# Altium schematic symbol library BUS Buffer.SchLib: 9 symbols
Pins are listed as number, name and electrical type; pins without a type are passive.

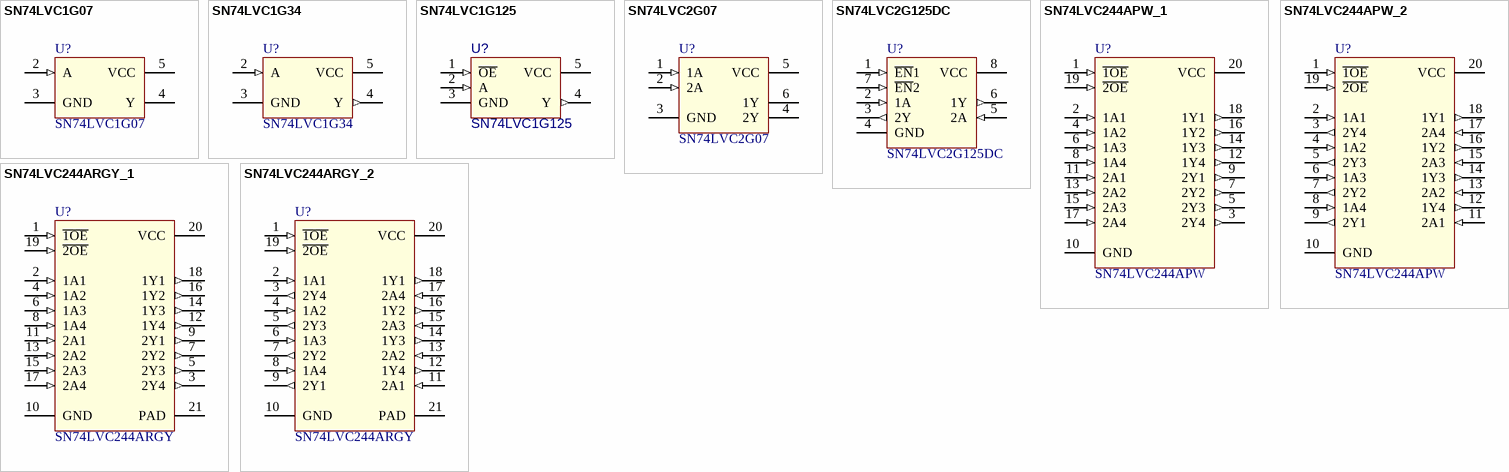
[diagram p0: symbols SN74LVC1G07 to SN74LVC244ARGY_2]

## SN74LVC1G07
designator U?
SN74LVC1G07 Single Buffer/Driver With Open-Drain Output; Value: SN74LVC1G07DBVR
footprint SOT-23-5 (SOT23, 5-Leads, Body 2.9x1.6mm, Pitch 0.95mm, Lead Span 2.8mm, IPC Medium Density)
pins: 2 A (in), 3 GND (power), 4 Y (oc), 5 VCC (power)

## SN74LVC1G34
designator U?
Single Buffer Gate; Value: SN74LVC1G34
footprint SOT-23-5 (SOT23, 5-Leads, Body 2.9x1.6mm, Pitch 0.95mm, Lead Span 2.8mm, IPC Medium Density)
pins: 2 A (in), 3 GND (power), 4 Y (out), 5 VCC (power)

## SN74LVC1G125
designator U?
Single Bus Buffer Gate With 3-State Output; Value: SN74LVC1G125
footprint SOT-23-5 (SOT23, 5-Leads, Body 2.9x1.6mm, Pitch 0.95mm, Lead Span 2.8mm, IPC Medium Density)
pins: 1 ~{OE} (in), 2 A (in), 3 GND (power), 4 Y (out), 5 VCC (power)

## SN74LVC2G07
designator U?
Dual Buffer and Driver With Open-Drain Outputs; Value: SN74LVC2G07
footprint SOT-23-6 (SOT23, 6-Leads, Body 2.9x1.6mm, Pitch 0.95mm, Lead Span 2.8mm, IPC Medium Density)
pins: 1 1A (in), 2 2A (in), 3 GND (power), 4 2Y (oc), 5 VCC (power), 6 1Y (oc)

## SN74LVC2G125DC
designator U?
Dual Bus Buffer Gate With 3-State Outputs; Value: SN74LVC2G125DC
footprint VSSOP-8 (VSSOP, 8-Leads, Body 2,00x2,30mm, Pitch 0,50mm, IPC Medium Density)
footprint SSOP-8 (Footprint not found)
pins: 1 ~{EN}1 (in), 2 1A (in), 3 2Y (out), 4 GND (power), 5 2A (in), 6 1Y (out), 7 ~{EN}2 (in), 8 VCC (power)

## SN74LVC244APW_1
designator U?, comment SN74LVC244APW
Octal Buffer or Driver With 3-State Outputs; Value: SN74LVC244APW
footprint TSSOP-20 (Shrink Small Outline; 20 Leads; Body Width 4.4 mm; Pitch 0.65 mm)
pins: 1 ~{1OE} (in), 2 1A1 (in), 3 2Y4 (out), 4 1A2 (in), 5 2Y3 (out), 6 1A3 (in), 7 2Y2 (out), 8 1A4 (in), 9 2Y1 (out), 10 GND (power), 11 2A1 (in), 12 1Y4 (out), 13 2A2 (in), 14 1Y3 (out), 15 2A3 (in), 16 1Y2 (out), 17 2A4 (in), 18 1Y1 (out), 19 ~{2OE} (in), 20 VCC (power)

## SN74LVC244APW_2
designator U?, comment SN74LVC244APW
Octal Buffer or Driver With 3-State Outputs; Value: SN74LVC244APW
footprint TSSOP-20 (Shrink Small Outline; 20 Leads; Body Width 4.4 mm; Pitch 0.65 mm)
pins: 1 ~{1OE} (in), 2 1A1 (in), 3 2Y4 (out), 4 1A2 (in), 5 2Y3 (out), 6 1A3 (in), 7 2Y2 (out), 8 1A4 (in), 9 2Y1 (out), 10 GND (power), 11 2A1 (in), 12 1Y4 (out), 13 2A2 (in), 14 1Y3 (out), 15 2A3 (in), 16 1Y2 (out), 17 2A4 (in), 18 1Y1 (out), 19 ~{2OE} (in), 20 VCC (power)

## SN74LVC244ARGY_1
designator U?, comment SN74LVC244ARGY
Octal Buffer or Driver With 3-State Outputs; Value: SN74LVC244ARGY
footprint VQFN-20 (RGY0020A) (VQFN, 20-Leads, Body 3.50x4.50mm, Pitch 1.50mm/0.50mm, Thermal Pad 2.05x3.05mm, IPC Medium Density)
pins: 1 ~{1OE} (in), 2 1A1 (in), 3 2Y4 (out), 4 1A2 (in), 5 2Y3 (out), 6 1A3 (in), 7 2Y2 (out), 8 1A4 (in), 9 2Y1 (out), 10 GND (power), 11 2A1 (in), 12 1Y4 (out), 13 2A2 (in), 14 1Y3 (out), 15 2A3 (in), 16 1Y2 (out), 17 2A4 (in), 18 1Y1 (out), 19 ~{2OE} (in), 20 VCC (power), 21 PAD (power)

## SN74LVC244ARGY_2
designator U?, comment SN74LVC244ARGY
Octal Buffer or Driver With 3-State Outputs; Value: SN74LVC244ARGY
footprint VQFN-20 (RGY0020A) (VQFN, 20-Leads, Body 3.50x4.50mm, Pitch 1.50mm/0.50mm, Thermal Pad 2.05x3.05mm, IPC Medium Density)
pins: 1 ~{1OE} (in), 2 1A1 (in), 3 2Y4 (out), 4 1A2 (in), 5 2Y3 (out), 6 1A3 (in), 7 2Y2 (out), 8 1A4 (in), 9 2Y1 (out), 10 GND (power), 11 2A1 (in), 12 1Y4 (out), 13 2A2 (in), 14 1Y3 (out), 15 2A3 (in), 16 1Y2 (out), 17 2A4 (in), 18 1Y1 (out), 19 ~{2OE} (in), 20 VCC (power), 21 PAD (power)